# EAGLE library part 24C64 (library saha-aux)
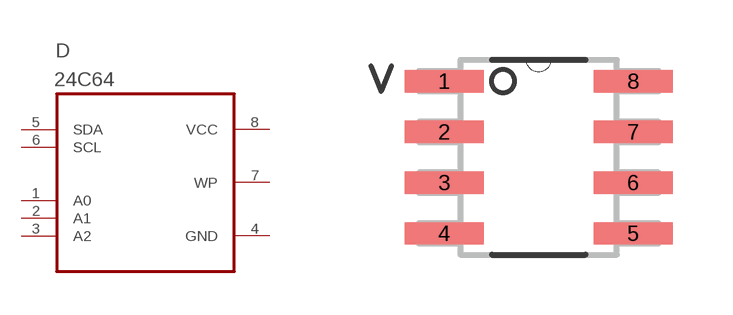
[diagram p4: symbol with the pads of SOIC8-N; footprint SOIC8-N]

Designator prefix D

## 24C64  [SOIC8-N]
1  A0
2  A1
3  A2
4  GND  in
5  SDA  pwr
6  SCL
7  WP
8  VCC

## Footprint SOIC8-N (pad centres in mm)
smd 1.981 x 0.559: 1 -2.362,1.905; 2 -2.362,0.635; 3 -2.362,-0.635; 4 -2.362,-1.905; 5 2.362,-1.905; 6 2.362,-0.635; 7 2.362,0.635; 8 2.362,1.905